# Altium footprint library DRV8833.PcbLib: 1 footprints
Each footprint in its own frame and in the unit in brackets; x right, y up, seen from the top. Pads: shape width x height; smd on the part's side, far side on the other; paste and mask are expansions set on the pad; w line width, h text height; cw(c..) or ccw(c..) is an arc to the next point about the centre after c.
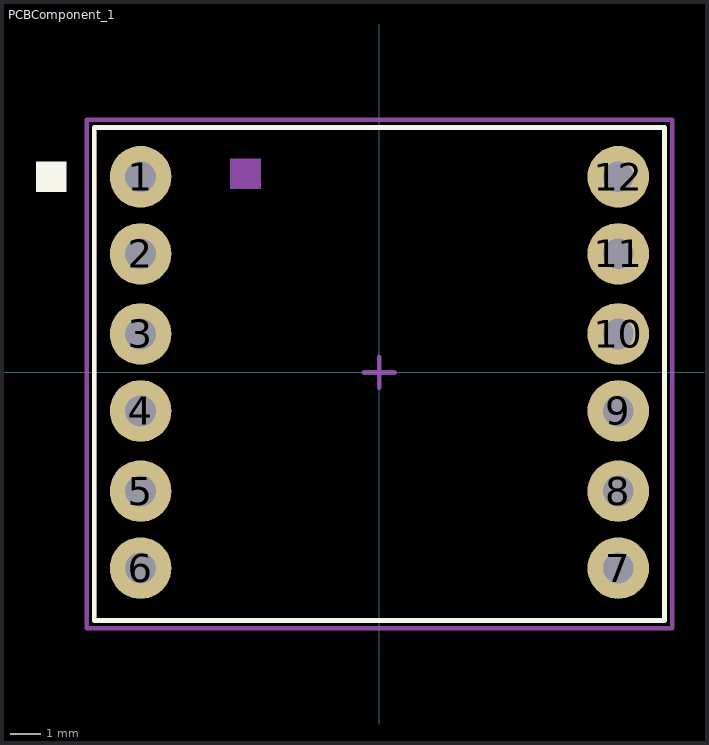
[diagram p0: the footprint, top view; thin cyan lines are the x and y axes]

## PCBComponent_1 [mm]
pads (12):
  round 2 hole 1: 1(-7.75,6.35) 2(-7.75,3.85) 3(-7.75,1.25) 4(-7.75,-1.25) 5(-7.75,-3.85) 6(-7.75,-6.35) 7(7.75,-6.35) 8(7.75,-3.85) 9(7.75,-1.25) 10(7.75,1.25) 11(7.75,3.85) 12(7.75,6.35)
Top Overlay:
  rectangle: -11.15,5.85 -10.15,6.85
  lines w0.15: -9.25,-8.05 9.25,-8.05 9.25,7.95 -9.25,7.95 -9.25,-8.05
Mechanical 1:
  lines w0.15: -9.25,-8.05 9.25,-8.05 9.25,7.95 -9.25,7.95 -9.25,-8.05
Top Assembly:
  rectangle: -4.85,5.95 -3.85,6.95
  lines w0.15: -9.25,-8.05 9.25,-8.05 9.25,7.95 -9.25,7.95 -9.25,-8.05
Top Courtyard:
  lines w0.15: -9.5,-8.3 9.5,-8.3 9.5,8.2 -9.5,8.2 -9.5,-8.3
Top Component Center:
  lines w0.15: -0.5,0 0.5,0 ; 0,-0.5 0,0.5